# Altium footprint library QUTMS_JumperLibrary.PcbLib: 4 footprints
Each footprint in its own frame and in the unit in brackets; x right, y up, seen from the top. Pads: shape width x height; smd on the part's side, far side on the other; paste and mask are expansions set on the pad; w line width, h text height; cw(c..) or ccw(c..) is an arc to the next point about the centre after c.
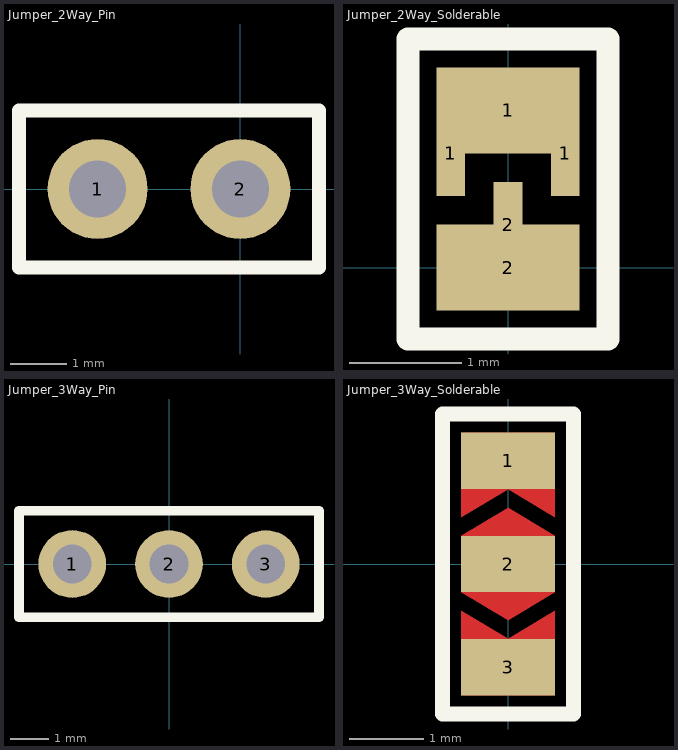
[diagram p0: the footprints below, top view; thin cyan lines are the x and y axes]

## Jumper_2Way_Pin [mil]
pads (2):
  round 70 hole 40: 1(-100,0) 2(0,0)
Top Overlay:
  lines w10: -155,-55 55,-55 55,55 -155,55 -155,-55
3D body "77311-y18-02_asm.stp": height 332.16, standoff -120.59, extent -142.38,-47.72 41.87,47.16

## Jumper_2Way_Solderable [mil]
pads (5):
  rect 10x30 smd: 1(-20,40) 1(20,40) 2(0,15)
  rect 50x30 smd: 1(0,55) 2(0,0)
Top Overlay:
  lines w8: -35,-25 35,-25 35,80 -35,80 -35,-25
Top Solder:
  rectangle: -30,-20 30,75.1

## Jumper_3Way_Pin [mil]
pads (3):
  round 70 hole 40: 1(-100,0) 2(0,0) 3(100,0)
Top Overlay:
  lines w10: -155,-55 155,-55 155,55 -155,55 -155,-55
3D body "77311-y18-03_asm.stp": height 332.16, standoff -120.59, extent -142.01,-47.56 142.24,47.32

## Jumper_3Way_Solderable [mil]
pads (3):
  rect 50x30 smd: 1(0,55) 2(0,0) 3(0,-55)
Top Layer:
  region: -25,15 0,30 25,15 25,-15 0,-30 -25,-15
  region: 25.03,-24.96 0.03,-39.96 -24.97,-24.96 -24.97,-69.96 25.03,-69.96
  region: -25,25 0,40 25,25 25,70 -25,70
Top Overlay:
  lines w8: -35,-80 -35,80 35,80 35,-80 -35,-80
Top Solder:
  rectangle: -30,-75 30,75